# Altium schematic symbol library SCH - POWER - SWITCHMODE - TI TPS54316_PWP_20.SchLib: 1 symbol
Pins are listed as number, name and electrical type; pins without a type are passive.

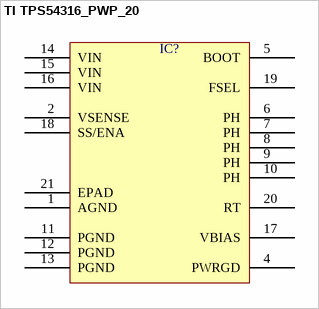
[diagram p0: symbol TI TPS54316_PWP_20]

## TI TPS54316_PWP_20
designator IC?  (value not drawn)
pins: 1 AGND, 2 VSENSE, 4 PWRGD, 5 BOOT, 6 PH, 7 PH, 8 PH, 9 PH, 10 PH, 11 PGND, 12 PGND, 13 PGND, 14 VIN, 15 VIN, 16 VIN, 17 VBIAS, 18 SS/ENA, 19 FSEL, 20 RT, 21 EPAD